# EAGLE library part ESP32-DEVKITM-1 (library SamacSys_Parts)
Development Boards & Kits - Other Processors ESP32 general-purpose development board, embeds ESP32-MINI-1, with pin header Source: Datasheet <https://www.espressif.com/sites/default/files/documentation/esp32-mini-1_datasheet_en.pdf>
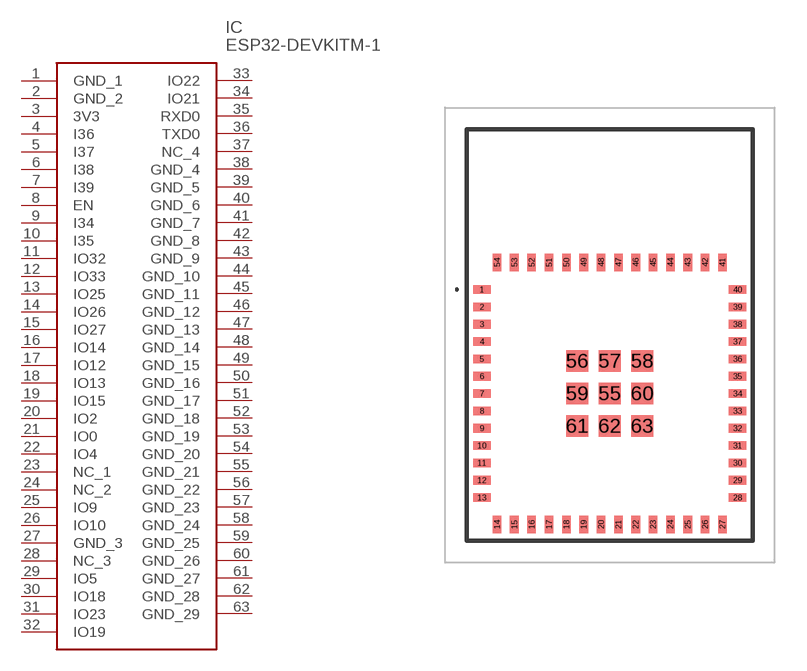
[diagram p0: symbol with the pads of ESP32DEVKITM1; footprint ESP32DEVKITM1]

Designator prefix IC

## ESP32-DEVKITM-1 (Description: Development Boards & Kits - Other Processors ESP32 general-purpose development board, embeds ESP32-MINI-1, with pin header; Height: 2.55mm; Manufacturer_Name: Espressif Systems; Manufacturer_Part_Number: ESP32-DEVKITM-1; Mouser_Part_Number: 356-ESP32-DEVKITM-1; Mouser_Price-Stock: https://www.mouser.co.uk/ProductDetail/Espressif-Systems/ESP32-DEVKITM-1?qs=81r%252BiQLm7BSCdo5emILkwQ%3D%3D)  [ESP32DEVKITM1]
1  GND_1
2  GND_2
3  3V3
4  I36
5  I37
6  I38
7  I39
8  EN
9  I34
10  I35
11  IO32
12  IO33
13  IO25
14  IO26
15  IO27
16  IO14
17  IO12
18  IO13
19  IO15
20  IO2
21  IO0
22  IO4
23  NC_1
24  NC_2
25  IO9
26  IO10
27  GND_3
28  NC_3
29  IO5
30  IO18
31  IO23
32  IO19
33  IO22
34  IO21
35  RXD0
36  TXD0
37  NC_4
38  GND_4
39  GND_5
40  GND_6
41  GND_7
42  GND_8
43  GND_9
44  GND_10
45  GND_11
46  GND_12
47  GND_13
48  GND_14
49  GND_15
50  GND_16
51  GND_17
52  GND_18
53  GND_19
54  GND_20
55  GND_21
56  GND_22
57  GND_23
58  GND_24
59  GND_25
60  GND_26
61  GND_27
62  GND_28
63  GND_29

## Footprint ESP32DEVKITM1 (pad centres in mm)
ESP32-DEVKITM-1-1
smd 0.8 x 0.4: 1 -5.9,4.8; 2 -5.9,4; 3 -5.9,3.2; 4 -5.9,2.4; 5 -5.9,1.6; 6 -5.9,0.8; 7 -5.9,0; 8 -5.9,-0.8; 9 -5.9,-1.6; 10 -5.9,-2.4; 11 -5.9,-3.2; 12 -5.9,-4; 13 -5.9,-4.8; 28 5.9,-4.8; 29 5.9,-4; 30 5.9,-3.2; 31 5.9,-2.4; 32 5.9,-1.6; 33 5.9,-0.8; 34 5.9,0; 35 5.9,0.8; 36 5.9,1.6; 37 5.9,2.4; 38 5.9,3.2; 39 5.9,4; 40 5.9,4.8
smd 0.4 x 0.8: 14 -5.2,-6.05; 15 -4.4,-6.05; 16 -3.6,-6.05; 17 -2.8,-6.05; 18 -2,-6.05; 19 -1.2,-6.05; 20 -0.4,-6.05; 21 0.4,-6.05; 22 1.2,-6.05; 23 2,-6.05; 24 2.8,-6.05; 25 3.6,-6.05; 26 4.4,-6.05; 27 5.2,-6.05; 41 5.2,6.05; 42 4.4,6.05; 43 3.6,6.05; 44 2.8,6.05; 45 2,6.05; 46 1.2,6.05; 47 0.4,6.05; 48 -0.4,6.05; 49 -1.2,6.05; 50 -2,6.05; 51 -2.8,6.05; 52 -3.6,6.05; 53 -4.4,6.05; 54 -5.2,6.05
smd 1 x 1: 55 0,0; 56 -1.5,1.5; 57 0,1.5; 58 1.5,1.5; 59 -1.5,0; 60 1.5,0; 61 -1.5,-1.5; 62 0,-1.5; 63 1.5,-1.5